# EAGLE library part D7S2C2 (library opto)
7-segment display, 2 common pins commons at the right
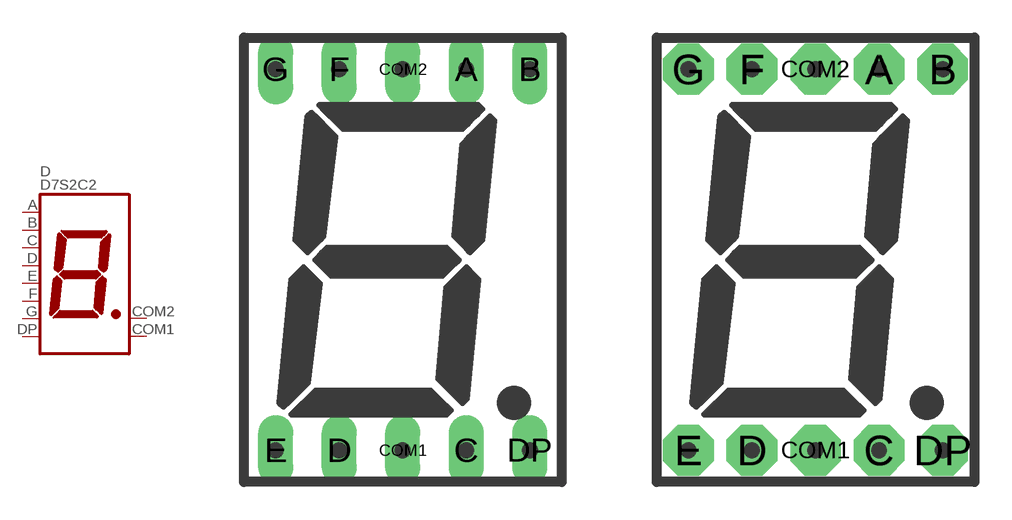
[diagram p7: symbol with the pads of D7S2C01L; footprints D7S2C01L, D7S2C01N]

Designator prefix D

## D7S2C2  [D7S2C01L]
A  A
B  B
C  C
COM1  C1
COM2  C2
D  D
DP  DP
E  E
F  F
G  G

## D7S2C2L  [D7S2C01L]
Pads as for D7S2C01L

## D7S2C2N  [D7S2C01N]
Pads as for D7S2C01L

## Footprint D7S2C01L (pad centres in mm)
7-segment display 13.5mm, long pads 2 common pins
drill 0.813 pad 1.397 long: A 7.62,15.24; B 10.16,15.24; C 7.62,0; COM1 5.08,0; COM2 5.08,15.24; D 2.54,0; DP 10.16,0; E 0,0; F 2.54,15.24; G 0,15.24

## Footprint D7S2C01N (pad centres in mm)
7-segment display 13.5mm 2 common pins
drill 0.813 pad 2.032 octagon: A 7.62,15.24; B 10.16,15.24; C 7.62,0; COM1 5.08,0; COM2 5.08,15.24; D 2.54,0; DP 10.16,0; E 0,0; F 2.54,15.24; G 0,15.24